# Altium footprint library ESC.PcbLib: 35 footprints (part 3 of 3)
Each footprint in its own frame and in the unit in brackets; x right, y up, seen from the top. Pads: shape width x height; smd on the part's side, far side on the other; paste and mask are expansions set on the pad; w line width, h text height; cw(c..) or ccw(c..) is an arc to the next point about the centre after c.
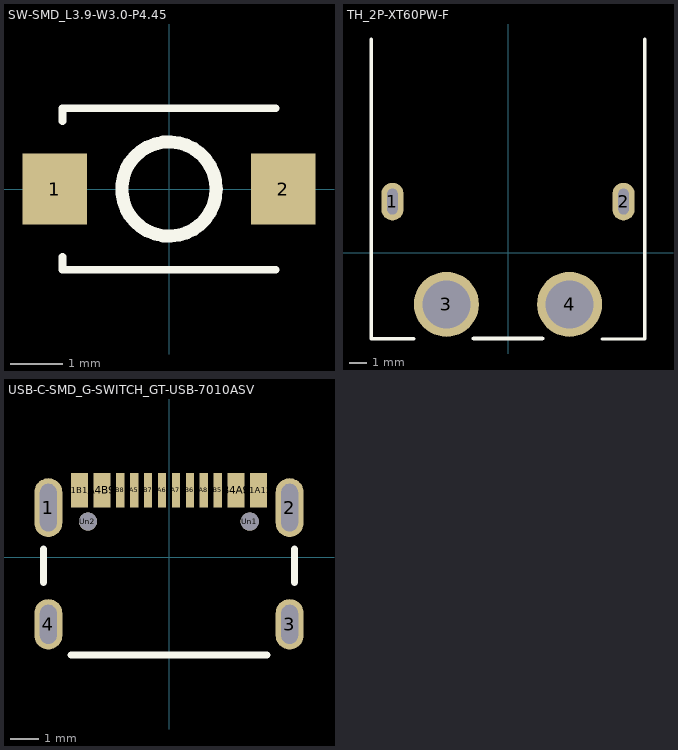
[diagram p2: the footprints below, top view; thin cyan lines are the x and y axes]

## SW-SMD_L3.9-W3.0-P4.45 [mm]
pads (2):
  rect 1.23x1.36 smd: 1(-2.18,0) 2(2.18,0)
Top Overlay:
  circle w0.25: c0,0 r0.9
  lines w0.15: -2.03,-1.3 -2.03,-1.54 2.03,-1.54 ; -2.03,1.3 -2.03,1.54 2.03,1.54
3D body "SW-SMD_L3.9-W2.9-H2.0-LS4.8.step": height 1.95, standoff 0, extent -2.4,-1.45 2.4,1.45

## TH_2P-XT60PW-F [mm]
pads (4):
  rrect100% 1.3x2.2 hole 0.6 slot 1.5 at 90 deg: 1(-6.75,3) 2(6.75,3)
  round 3.8 hole 2.8: 3(-3.6,-3) 4(3.6,-3)
Top Overlay:
  lines w0.2: -8,12.5 -8,-5 -5.5,-5 ; 5.5,-5.026 8,-5.026 8,12.474
  lines w0.25: -2,-5 2,-5
Mechanical 6:
  circle w1.25: c-3.6,-3 r0.63
  circle w1.25: c3.6,-3 r0.63
3D body "TH_2P-XT60PW-F.step": height 8.4, standoff -4, extent -7.75,-4.8 7.75,12.4

## USB-C-SMD_G-SWITCH_GT-USB-7010ASV [mm]
pads (18):
  rrect100% 1x2.1 hole 1.7 slot 0.6 at 0 deg: 1(-4.32,1.78) 2(4.32,1.78)
  rrect100% 1x1.8 hole 1.4 slot 0.6 at 0 deg: 3(4.32,-2.4) 4(-4.32,-2.4)
  rect 0.6x1.24 smd: A1B12(-3.2,2.4) A4B9(-2.4,2.4) B1A12(3.2,2.4) B4A9(2.4,2.4)
  rect 0.3x1.24 smd: A5(-1.25,2.4) A6(-0.25,2.4) A7(0.25,2.4) A8(1.25,2.4) B5(1.75,2.4) B6(0.75,2.4) B7(-0.75,2.4) B8(-1.75,2.4)
  round 0.65 hole 0.65: Un1(2.89,1.28) Un2(-2.9,1.28)
Top Overlay:
  lines w0.25: -4.5,-0.9 -4.5,0.3 ; -3.5,-3.5 3.5,-3.5 ; 4.5,-0.9 4.5,0.3
3D body "USB-C-SMD_G-SWITCH_GT-USB-7010ASV.step": height 3.16, standoff -1.5, extent -4.47,-5.05 4.47,2.85